# Altium integrated library WX-DC12003.IntLib: 1 symbol
Pins are listed as number, name and electrical type; pins without a type are passive.

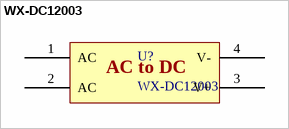
[diagram p0: symbol WX-DC12003]

## WX-DC12003
designator U?
Designed By @Alixahedi
footprint WX-DC12003 (Designed By @Alixahedi)
pins: 1 AC, 2 AC, 3 V+, 4 V-
text: AC to DC